# EAGLE library part M09HP (library FP-21T for MITS)
SUB-D
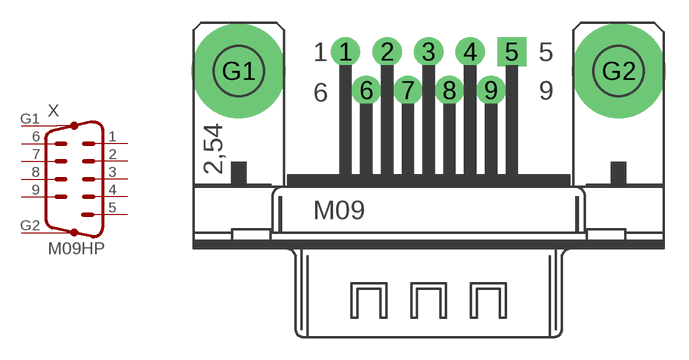
[diagram p1: symbol with the pads of M09HP; footprint M09HP]

Designator prefix X

## M09HP  [M09HP]
1  1  pas
2  2  pas
3  3  pas
4  4  pas
5  5  pas
6  6  pas
7  7  pas
8  8  pas
9  9  pas
G1  G1  pas
G2  G2  pas

## Footprint M09HP (pad centres in mm)
SUB-D
drill 1 pad 1.93: 1 -5.486,1.27; 2 -2.743,1.27; 3 0,1.27; 4 2.743,1.27; 6 -4.115,-1.27; 7 -1.372,-1.27; 8 1.372,-1.27; 9 4.115,-1.27
drill 1 pad 1.93 square: 5 5.486,1.27
drill 3.2 pad 6.2: G1 -12.522,0; G2 12.522,0